# Altium footprint library footprints.PcbLib: 5 footprints
Each footprint in its own frame and in the unit in brackets; x right, y up, seen from the top. Pads: shape width x height; smd on the part's side, far side on the other; paste and mask are expansions set on the pad; w line width, h text height; cw(c..) or ccw(c..) is an arc to the next point about the centre after c.
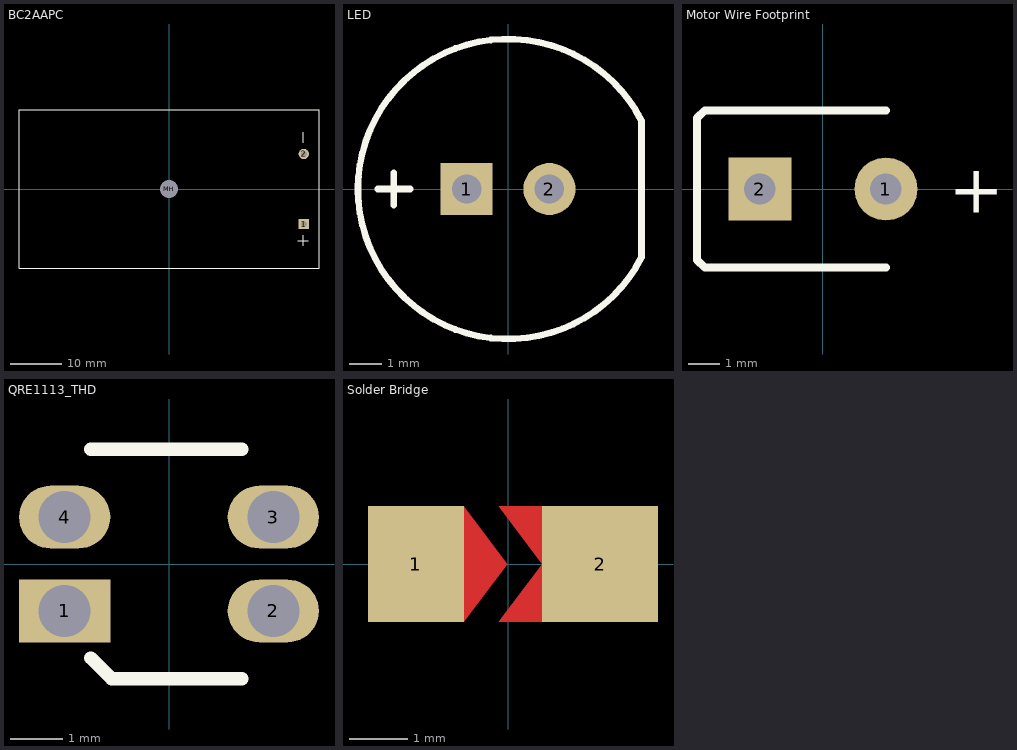
[diagram p0: the footprints below, top view; thin cyan lines are the x and y axes]

## BC2AAPC [mm] "BC2AAPC Battery Holder 58x30.5x15mm, For 2xAA batteries"
height 15
pads (3):
  rect 2x2 hole 1.2: 1(26.16,-6.795)
  round 2 hole 1.2: 2(26.16,6.795)
  round 2 hole 3.56 unplated: MH(0,0)
Top Overlay:
  lines w0.2: 25,-10 26,-10 ; 26,9 26,11 ; 27,-10 26,-10 ; 26,-10 26,-9 26,-11 26,-10 ; -29.1,-15.36 26.64,-15.36 29.1,-15.36 29.1,15.36 -29.1,15.36 -29.1,-15.36
3D body "BC2AAPC.STEP": height 15, standoff -7.49, extent -28.956,-15.24 28.956,15.24

## LED [mm] "THD LED 8mm C160H90, Pad spacing - 2.54mm, Bulb dia - 8mm, Height - 11mm"
height 11
pads (2):
  rect 1.6x1.6 hole 0.9: 1(-1.27,0)
  round 1.6 hole 0.9: 2(1.27,0)
Top Overlay:
  lines w0.2: -4,0 -3,0 ; -3.5,0 -3.5,-0.5 -3.5,0.5 ; 3.988,2.293 3.988,2.293 ; 4.094,-2.097 cw(c0,0) 4.094,2.097 4.094,-2.097

## Motor Wire Footprint [mm]
pads (2):
  round 2 hole 1: 1(2,0)
  rect 2x2 hole 1: 2(-2,0)
Top Overlay:
  lines w0.254: 2,-2.5 -3.75,-2.5 -4,-2.25 -4,0 -4,2.25 -3.75,2.5 2,2.5
  text "+" at 4,-0.75 h1.52

## QRE1113_THD [mm]
height 1.6
pads (4):
  rect 1.75x1.2 hole 1: 1(-2,-0.9)
  oval 1.75x1.2 hole 1: 2(2,-0.9) 3(2,0.9) 4(-2,0.9)
Top Overlay:
  lines w0.254: -1.5,2.2 1.4,2.2 ; 1.4,-2.2 -1.1,-2.2 -1.5,-1.8 ; -1.5,-1.8 -1.5,-1.8
3D body: height 1.6, standoff 0, extent -1.35,-1.7 1.35,1.7

## Solder Bridge [mm] "Solder Bridge 5x2mm, gap 0.6mm"
pads (2):
  rect 1.65x2 smd: 1(-1.587,0)
  rect 2x2 smd: 2(1.587,0)
Top Layer:
  region: 0.587,0 0.587,-1 -0.162,-1
  region: -0.162,1 0.587,1 0.587,0
  region: -0.012,0 -0.763,1 -0.763,-1